# Altium footprint library Footprint_Connector.PcbLib: 22 footprints (part 1 of 2)
Each footprint in its own frame and in the unit in brackets; x right, y up, seen from the top. Pads: shape width x height; smd on the part's side, far side on the other; paste and mask are expansions set on the pad; w line width, h text height; cw(c..) or ccw(c..) is an arc to the next point about the centre after c.
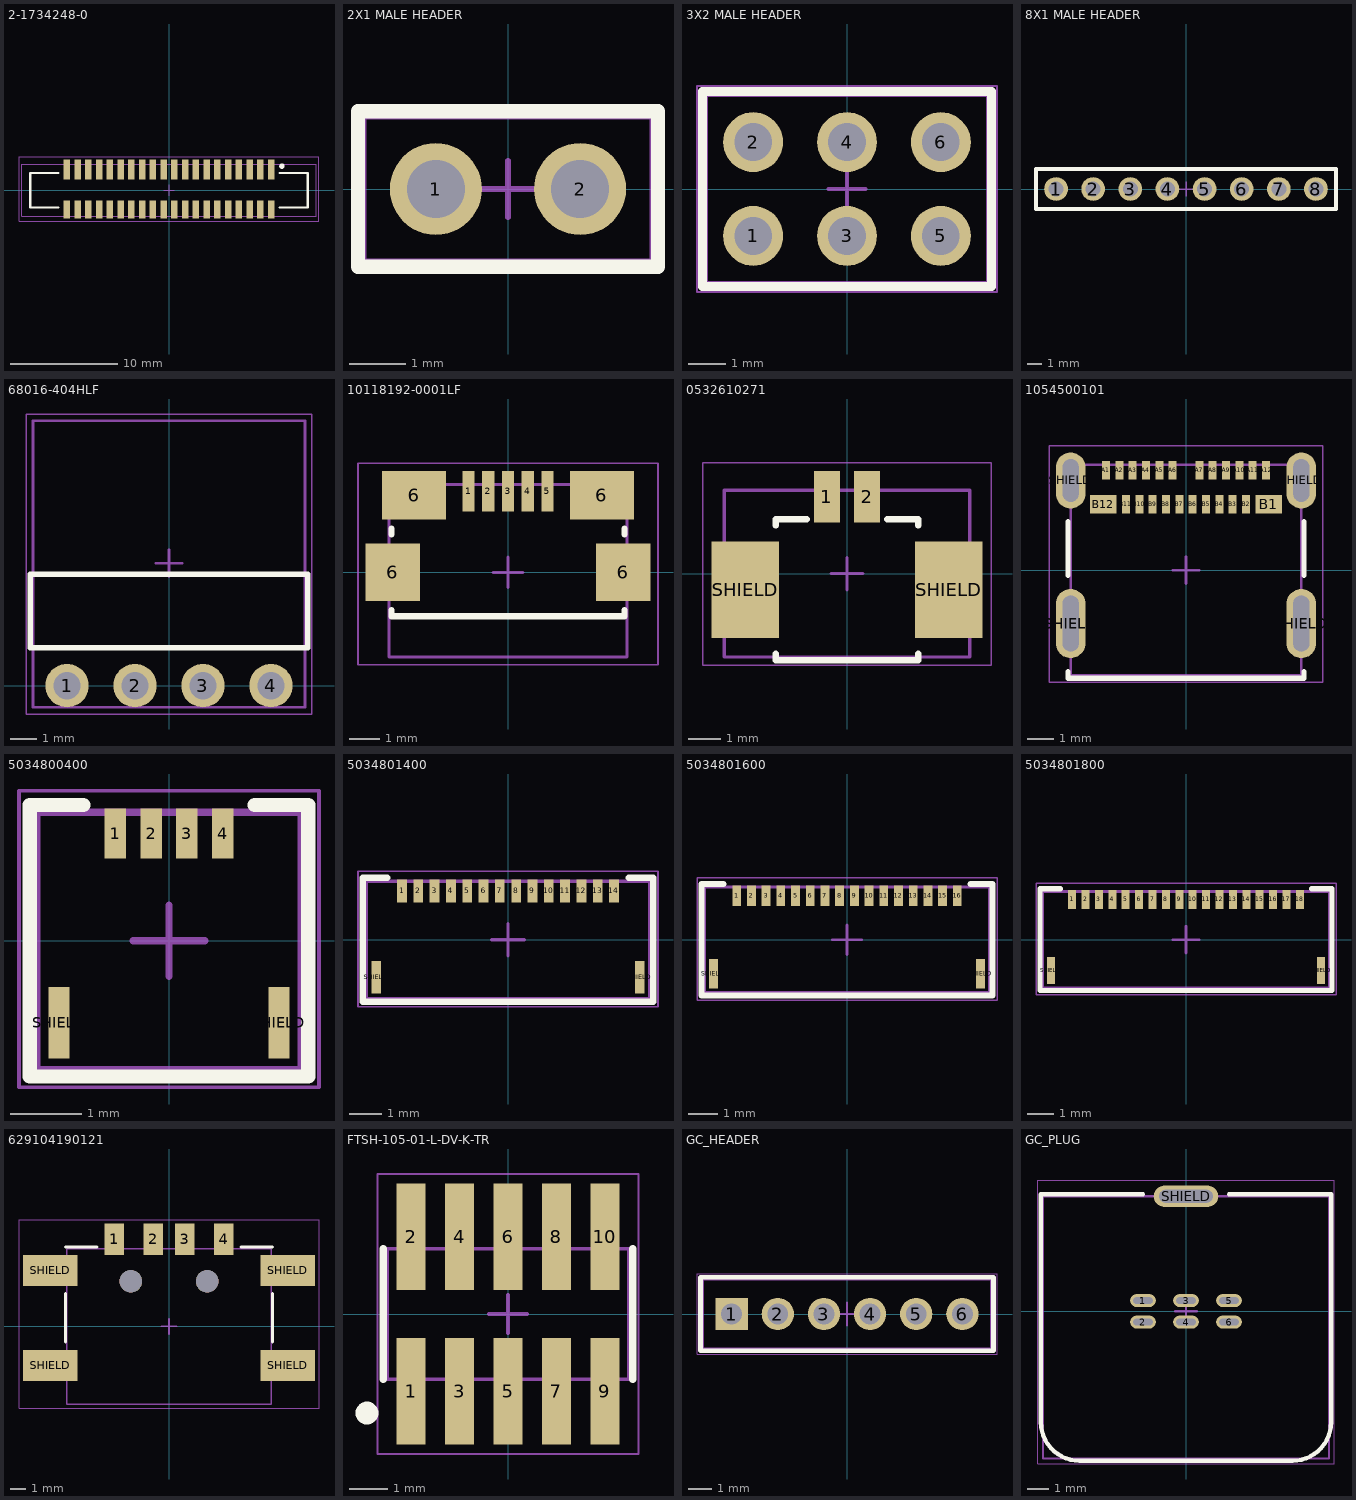
[diagram p0: the footprints below, top view; thin cyan lines are the x and y axes]

## 2-1734248-0 [mm] "CONN FPC VERT 20POS 1.00MM SMD"
pads (40):
  rect 0.6x1.65 smd: 1(9.5,-1.788) 2(8.5,-1.788) 3(7.5,-1.788) 4(6.5,-1.788) 5(5.5,-1.788) 6(4.5,-1.788) 7(3.5,-1.788) 8(2.5,-1.788) 9(1.5,-1.788) 10(0.5,-1.788) 11(-0.5,-1.788) 12(-1.5,-1.788) 13(-2.5,-1.788) 14(-3.5,-1.788) 15(-4.5,-1.788) 16(-5.5,-1.788) 17(-6.5,-1.788) 18(-7.5,-1.788) 19(-8.5,-1.788) 20(-9.5,-1.788)
  rect 0.6x1.85 smd: 1(9.5,1.937) 2(8.5,1.937) 3(7.5,1.937) 4(6.5,1.937) 5(5.5,1.937) 6(4.5,1.937) 7(3.5,1.937) 8(2.5,1.937) 9(1.5,1.937) 10(0.5,1.937) 11(-0.5,1.937) 12(-1.5,1.937) 13(-2.5,1.937) 14(-3.5,1.937) 15(-4.5,1.937) 16(-5.5,1.937) 17(-6.5,1.937) 18(-7.5,1.937) 19(-8.5,1.937) 20(-9.5,1.937)
Top Overlay:
  circle w0.25: c10.5,2.25 r0.125
  lines w0.2: -10.3,-1.6 -12.9,-1.6 -12.9,1.6 -10.3,1.6 ; 10.3,-1.6 12.9,-1.6 12.9,1.6 10.3,1.6
Top Assembly:
  lines w0.1: -13.7,-2.425 -13.7,2.425 13.7,2.425 13.7,-2.425 -13.7,-2.425
  text ".Designator" at -7.747,-1.27 h1.27
Top Courtyard:
  lines w0.05: -13.95,-2.863 13.95,-2.863 13.95,3.112 -13.95,3.112 -13.95,-2.863
  lines w0.1: -0.5,0 0.5,0 ; 0,-0.5 0,0.5
3D body "c-2-1734248-0-e-3d.stp": height 5.72, standoff 0.04, extent -13.7,-2.425 13.7,2.425

## 2X1 MALE HEADER [mm] "CONN HEADER VERT 2POS 2.54MM"
pads (2):
  round 1.62 hole 1.02: 1(-1.27,0) 2(1.27,0)
Top Overlay:
  lines w0.254: -2.64,-1.37 2.64,-1.37 2.64,1.37 -2.64,1.37 -2.64,-1.37
Top Assembly:
  lines w0.1: -2.54,-1.27 -2.54,1.27 2.54,1.27 2.54,-1.27 -2.54,-1.27
  text ".Designator" at -7.747,-1.27 h1.27
Top Courtyard:
  lines w0.05: -2.54,-1.27 2.54,-1.27 2.54,1.27 -2.54,1.27 -2.54,-1.27
  lines w0.1: -0.5,0 0.5,0 ; 0,-0.5 0,0.5
3D body "61300211121_Download_STP_61300211121_rev1.stp": height 7.27, standoff -4.27, extent -2.54,-1.27 2.54,1.27

## 3X2 MALE HEADER [mm] "CONN HEADER VERT 6POS 2.54MM"
pads (6):
  round 1.62 hole 1.02: 1(-2.54,-1.27) 2(-2.54,1.27) 3(0,-1.27) 4(0,1.27) 5(2.54,-1.27) 6(2.54,1.27)
Top Overlay:
  lines w0.254: -3.91,-2.64 -3.91,2.64 3.91,2.64 3.91,-2.64 -3.91,-2.64
Top Assembly:
  lines w0.1: -3.81,-2.54 -3.81,2.54 3.81,2.54 3.81,-2.54 1.27,-2.54 -3.81,-2.54
  text ".Designator" at -7.747,-1.27 h1.27
Top Courtyard:
  lines w0.05: -4.06,-2.79 4.06,-2.79 4.06,2.79 -4.06,2.79 -4.06,-2.79
  lines w0.1: -0.5,0 0.5,0 ; 0,-0.5 0,0.5
3D body "010977066.stp": height 10.43, standoff -2.78, extent -3.81,-2.54 3.81,2.54

## 8X1 MALE HEADER [mm] "CONN HEADER VERT 8POS 2.54MM"
pads (8):
  round 1.62 hole 1.02: 1(-8.89,0) 2(-6.35,0) 3(-3.81,0) 4(-1.27,0) 5(1.27,0) 6(3.81,0) 7(6.35,0) 8(8.89,0)
Top Overlay:
  lines w0.254: -10.26,-1.37 -10.26,1.37 10.26,1.37 10.26,-1.37 -10.26,-1.37
Top Assembly:
  lines w0.1: -10.16,-1.27 10.16,-1.27 10.16,1.27 -10.16,1.27 -10.16,-1.27
  text ".Designator" at -7.747,-1.27 h1.27
Top Courtyard:
  lines w0.05: -10.16,-1.27 -10.16,1.27 10.16,1.27 10.16,-1.27 -10.16,-1.27
  lines w0.1: -0.5,0 0.5,0 ; 0,-0.5 0,0.5
3D body "61300811121_Download_STP_61300811121_rev1.stp": height 7.27, standoff -4.27, extent -10.16,-1.27 10.16,1.27

## 68016-404HLF [mm] "CONN HEADER 4POS .100 R/A TIN"
pads (4):
  round 1.62 hole 1.02: 1(-3.81,0) 2(-1.27,0) 3(1.27,0) 4(3.81,0)
Top Overlay:
  lines w0.2: -5.18,1.42 -5.18,4.16 5.18,4.16 5.18,1.42 -5.18,1.42
Top Assembly:
  lines w0.1: -5.08,-0.81 5.08,-0.81 5.08,9.9 -5.08,9.9 -5.08,-0.81
  text ".Designator" at -7.747,3.302 h1.27
Top Courtyard:
  lines w0.05: -5.33,-1.06 -5.33,10.15 5.33,10.15 5.33,-1.06 -5.33,-1.06
  lines w0.1: -0.5,4.575 0.5,4.575 ; 0,4.075 0,5.075
3D body "(Unsaved).step": height 2.48, standoff -2.92, extent -5.08,-0.368 5.08,9.855

## 10118192-0001LF [mm] "Conn Micro USB 2.0 Type B RCP 5 POS 0.65mm Solder RA SMD 5 Terminal 1 Port T/R"
pads (9):
  rect 0.4x1.35 smd: 1(-1.3,2.675) 2(-0.65,2.675) 3(0,2.675) 4(0.65,2.675) 5(1.3,2.675)
  rect 1.8x1.9 smd: 6(-3.8,0) 6(3.8,0)
  rect 2.1x1.6 smd: 6(-3.1,2.55) 6(3.1,2.55)
Top Overlay:
  lines w0.2: -3.85,-1.25 -3.85,-1.45 3.85,-1.45 3.85,-1.25 ; -3.85,1.25 -3.85,1.45 ; 3.85,1.25 3.85,1.45
Top Assembly:
  lines w0.1: -3.93,-2.8 -3.93,2.9 3.93,2.9 3.93,-2.8 -3.93,-2.8
  text ".Designator" at -7.747,-1.27 h1.27
Top Courtyard:
  lines w0.05: -4.95,-3.05 -4.95,3.6 4.95,3.6 4.95,-3.05 -4.95,-3.05
  lines w0.1: -0.5,0 0.5,0 ; 0,-0.5 0,0.5
3D body "10118192C.stp": height 2.75, standoff -0.26, extent -3.957,-2.76 3.955,2.9

## 0532610271 [mm] "CONN HEADER SMD R/A 2POS 1.25MM"
pads (4):
  rect 0.8x1.6 smd: 1(-0.625,2.4) 2(0.625,2.4)
  rect 2.1x3 smd: SHIELD(-3.175,-0.5) SHIELD(3.175,-0.5)
Top Overlay:
  lines w0.2: -2.225,-2.5 -2.225,-2.7 2.225,-2.7 2.225,-2.5 ; -2.225,1.5 -2.225,1.7 -1.25,1.7 ; 1.25,1.7 2.225,1.7 2.225,1.5
Top Assembly:
  lines w0.1: -3.825,-2.6 -3.825,2.6 3.825,2.6 3.825,-2.6 -3.825,-2.6
  text ".Designator" at -7.747,-1.27 h1.27
Top Courtyard:
  lines w0.05: -4.5,-2.85 -4.5,3.45 4.5,3.45 4.5,-2.85 -4.5,-2.85
  lines w0.1: -0.5,0 0.5,0 ; 0,-0.5 0,0.5
3D body "532610271.stp": height 3.39, standoff -0.01, extent -3.825,-2.6 3.825,2.6

## 1054500101 [mm] "CONN RCP USB3.1 TYPEC 24P SMD RA"
pads (28):
  rect 0.3x0.7 smd: A1(-3,3.74) A2(-2.5,3.74) A3(-2,3.74) A4(-1.5,3.74) A5(-1,3.74) A6(-0.5,3.74) A7(0.5,3.74) A8(1,3.74) A9(1.5,3.74) A10(2,3.74) A11(2.5,3.74) A12(3,3.74) B2(2.25,2.47) B3(1.75,2.47) B4(1.25,2.47) B5(0.75,2.47) B6(0.25,2.47) B7(-0.25,2.47) B8(-0.75,2.47) B9(-1.25,2.47) B10(-1.75,2.47) B11(-2.25,2.47)
  rect 1x0.7 smd: B1(3.1,2.47) B12(-3.1,2.47)
  oval 1.1x2.6 hole 2.1 slot 0.6 at 0 deg: SHIELD(-4.32,-2) SHIELD(4.32,-2)
  oval 1.1x2.1 hole 1.6 slot 0.6 at 0 deg: SHIELD(-4.32,3.36) SHIELD(4.32,3.36)
Top Overlay:
  lines w0.2: -4.42,-3.8 -4.42,-4.05 4.42,-4.05 4.42,-3.8 ; -4.42,-0.2 -4.42,1.81 ; 4.42,-0.2 4.42,1.81
Top Assembly:
  lines w0.1: -4.32,-3.95 4.32,-3.95 4.32,3.95 -4.32,3.95 -4.32,-3.95
  text ".Designator" at -7.747,-1.27 h1.27
Top Courtyard:
  lines w0.05: -5.12,-4.2 5.12,-4.2 5.12,4.66 -5.12,4.66 -5.12,-4.2
  lines w0.1: -0.5,0 0.5,0 ; 0,-0.5 0,0.5
3D body "1054500101.stp": height 3.2, standoff -0.76, extent -4.47,-3.95 4.47,3.95

## 5034800400 [mm] "CONN FFC FPC 4POS 0.50MM R/A"
pads (6):
  rect 0.3x0.7 smd mask+0.05: 1(-0.75,1.5) 2(-0.25,1.5) 3(0.25,1.5) 4(0.75,1.5)
  rect 0.3x1 smd mask+0.05: SHIELD(-1.54,-1.15)
  rect 0.3x1 smd: SHIELD(1.54,-1.15)
Top Overlay:
  lines w0.2: -1.2,1.9 -1.95,1.9 -1.95,-1.9 1.95,-1.9 1.95,1.9 1.2,1.9
Top Assembly:
  lines w0.1: -1.85,-1.8 1.85,-1.8 1.85,1.8 -1.85,1.8 -1.85,-1.8
  text ".Designator" at -7.747,-1.27 h0.76
Top Courtyard:
  lines w0.05: -2.1,-2.05 2.1,-2.05 2.1,2.1 -2.1,2.1 -2.1,-2.05
  lines w0.1: -0.5,0 0.5,0 ; 0,-0.5 0,0.5
3D body "5034800400.stp": height 1.88, standoff -0.02, extent -1.85,-1.8 1.85,1.8

## 5034801400 [mm] "CONN FFC FPC 14POS 0.50MM R/A"
pads (16):
  rect 0.3x0.7 smd mask+0.05: 1(-3.25,1.5) 2(-2.75,1.5) 3(-2.25,1.5) 4(-1.75,1.5) 5(-1.25,1.5) 6(-0.75,1.5) 7(-0.25,1.5) 8(0.25,1.5) 9(0.75,1.5) 10(1.25,1.5) 11(1.75,1.5) 12(2.25,1.5) 13(2.75,1.5) 14(3.25,1.5)
  rect 0.3x1 smd mask+0.05: SHIELD(-4.04,-1.15) SHIELD(4.04,-1.15)
Top Overlay:
  lines w0.2: -3.7,1.9 -4.45,1.9 -4.45,-1.9 4.45,-1.9 4.45,1.9 3.7,1.9
Top Assembly:
  lines w0.1: -4.35,-1.8 4.35,-1.8 4.35,1.8 -4.35,1.8 -4.35,-1.8
  text ".Designator" at -7.747,-1.27 h1.27
Top Courtyard:
  lines w0.05: -4.6,-2.05 4.6,-2.05 4.6,2.1 -4.6,2.1 -4.6,-2.05
  lines w0.1: -0.5,0 0.5,0 ; 0,-0.5 0,0.5
3D body "5034801400.stp": height 1.88, standoff -0.02, extent -4.35,-1.8 4.35,1.8

## 5034801600 [mm] "CONN FFC FPC 16POS 0.50MM R/A"
pads (18):
  rect 0.3x0.7 smd mask+0.05: 1(-3.75,1.5) 2(-3.25,1.5) 3(-2.75,1.5) 4(-2.25,1.5) 5(-1.75,1.5) 6(-1.25,1.5) 7(-0.75,1.5) 8(-0.25,1.5) 9(0.25,1.5) 10(0.75,1.5) 11(1.25,1.5) 12(1.75,1.5) 13(2.25,1.5) 14(2.75,1.5) 15(3.25,1.5) 16(3.75,1.5)
  rect 0.3x1 smd mask+0.05: SHIELD(-4.54,-1.15) SHIELD(4.54,-1.15)
Top Overlay:
  lines w0.2: -4.2,1.9 -4.95,1.9 -4.95,-1.9 4.95,-1.9 4.95,1.9 4.2,1.9
Top Assembly:
  lines w0.1: -4.85,-1.8 -4.85,1.8 4.85,1.8 4.85,-1.8 -4.85,-1.8
  text ".Designator" at -7.747,-1.27 h1.27
Top Courtyard:
  lines w0.05: -5.1,-2.05 5.1,-2.05 5.1,2.1 -5.1,2.1 -5.1,-2.05
  lines w0.1: -0.5,0 0.5,0 ; 0,-0.5 0,0.5
3D body "5034801600.stp": height 1.88, standoff -0.02, extent -4.85,-1.8 4.85,1.8

## 5034801800 [mm] "CONN FFC FPC 18POS 0.50MM R/A"
pads (20):
  rect 0.3x0.7 smd mask+0.05: 1(-4.25,1.5) 2(-3.75,1.5) 3(-3.25,1.5) 4(-2.75,1.5) 5(-2.25,1.5) 6(-1.75,1.5) 7(-1.25,1.5) 8(-0.75,1.5) 9(-0.25,1.5) 10(0.25,1.5) 11(0.75,1.5) 12(1.25,1.5) 13(1.75,1.5) 14(2.25,1.5) 15(2.75,1.5) 16(3.25,1.5) 17(3.75,1.5) 18(4.25,1.5)
  rect 0.3x1 smd mask+0.05: SHIELD(-5.04,-1.15) SHIELD(5.04,-1.15)
Top Overlay:
  lines w0.2: -4.7,1.9 -5.45,1.9 -5.45,-1.9 5.45,-1.9 5.45,1.9 4.7,1.9
Top Assembly:
  lines w0.1: -5.35,-1.8 5.35,-1.8 5.35,1.8 -5.35,1.8 -5.35,-1.8
  text ".Designator" at -7.747,-1.27 h1.27
Top Courtyard:
  lines w0.05: -5.6,-2.05 -5.6,2.1 5.6,2.1 5.6,-2.05 -5.6,-2.05
  lines w0.1: -0.5,0 0.5,0 ; 0,-0.5 0,0.5
3D body "5034801800.stp": height 1.88, standoff -0.02, extent -5.35,-1.8 5.35,1.8

## 629104190121 [mm] "CONN RCPT USB2.0 TYPEA 4P SMD RA"
pads (10):
  rect 1.25x2 smd: 1(-3.5,5.6) 2(-1,5.6) 3(1,5.6) 4(3.5,5.6)
  rect 3.5x2 smd: SHIELD(-7.625,-2.5) SHIELD(-7.625,3.6) SHIELD(7.625,-2.5) SHIELD(7.625,3.6)
  round 1.45 hole 1.45 unplated: ""(-2.45,2.9) ""(2.45,2.9)
Top Overlay:
  lines w0.2: -6.65,-1 -6.65,2.1 ; -6.65,5.1 -4.625,5.1 ; 4.625,5.1 6.65,5.1 ; 6.65,-1 6.65,2.1
Top Assembly:
  lines w0.1: -6.55,-5 -6.55,5 6.55,5 6.55,-5 -6.55,-5
  text ".Designator" at -7.747,-1.27 h1.27
Top Courtyard:
  lines w0.05: -9.625,-5.25 -9.625,6.85 9.625,6.85 9.625,-5.25 -9.625,-5.25
  lines w0.1: -0.5,0 0.5,0 ; 0,-0.5 0,0.5
3D body "629104190121_Download_STP_629104190121_rev1.stp": height 6.32, standoff -0.15, extent -8.25,-4.98 8.25,6.129

## FTSH-105-01-L-DV-K-TR [mil] "CONN HEADER SMD 10POS 1.27MM"
pads (10):
  rect 30x110 smd: 1(-100,-80) 2(-100,80) 3(-50,-80) 4(-50,80) 5(0,-80) 6(0,80) 7(50,-80) 8(50,80) 9(100,-80) 10(100,80)
Top Overlay:
  circle w15.75: c-145.67,-102.36 r3.94
  lines w7.87: -128.94,-67.48 -128.94,67.48 ; 128.94,-67.5 128.94,67.48
Top Assembly:
  lines w3.94: -125,-67.48 -125,67.48 125,67.48 125,-67.48 -125,-67.48
  text ".Designator" at -305,-50 h50
Top Courtyard:
  lines w1.97: -134.84,-144.84 -134.84,144.84 134.84,144.84 134.84,-144.84 -134.84,-144.84
  lines w3.94: -19.68,0 19.69,0 ; 0,-19.68 0,19.69
3D body "FTSH-105-01-L-DV-K-TR.stp": height 240, standoff -1, extent -125,-115 125,115

## GC_HEADER [mm]
pads (6):
  rect 1.4x1.4 hole 0.9: 1(-5,0)
  round 1.4 hole 0.9: 2(-3,0) 3(-1,0) 4(1,0) 5(3,0) 6(5,0)
Top Overlay:
  lines w0.2: -6.35,-1.6 6.35,-1.6 6.35,1.6 -6.35,1.6 -6.35,-1.6
Top Assembly:
  lines w0.1: -6.25,-1.5 6.25,-1.5 6.25,1.5 -6.25,1.5 -6.25,-1.5
  text ".Designator" at -7.747,-1.27 h1.27
Top Courtyard:
  lines w0.05: -6.5,-1.75 -6.5,1.75 6.5,1.75 6.5,-1.75 -6.5,-1.75
  lines w0.1: -0.5,0 0.5,0 ; 0,-0.5 0,0.5

## GC_PLUG [mm]
pads (7):
  oval 1.2x0.6 hole 0.3 slot 0.9 at 0 deg: 1(-2,0.5) 2(-2,-0.5) 3(0,0.5) 4(0,-0.5) 5(2,0.5) 6(2,-0.5)
  oval 3x1 hole 0.6 slot 2.5 at 0 deg: SHIELD(0,5.35)
Top Overlay:
  lines w0.2: -2,5.45 -6.75,5.45 -6.75,-5.15 ccw(c-4.95,-5.15) -4.95,-6.95 4.95,-6.95 ccw(c4.95,-5.15) 6.75,-5.15 6.75,5.45 2,5.45
Top Assembly:
  lines w0.1: -6.65,-6.85 6.65,-6.85 6.65,5.35 -6.65,5.35 -6.65,-6.85
  text ".Designator" at -7.747,-1.27 h1.27
Top Courtyard:
  lines w0.05: -6.9,-7.1 6.9,-7.1 6.9,6.1 -6.9,6.1 -6.9,-7.1
  lines w0.1: -0.5,0 0.5,0 ; 0,-0.5 0,0.5